# EAGLE library part ROOT1 (library thinkmaketest)
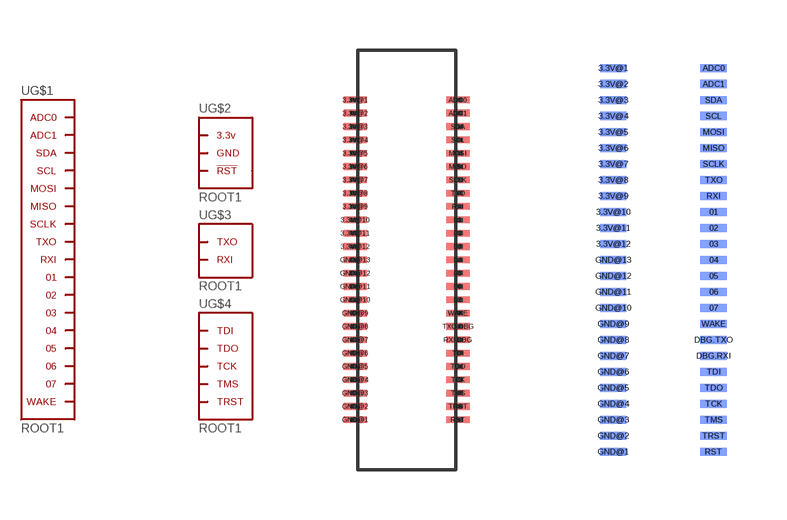
[diagram p0: symbol with the pads of ROOT1.TOP; footprints ROOT1.TOP, ROOT1.BOTTOM]

Designator prefix -; gates G$1=ROOT1.HEADER.ALL G$2=ROOT1.HEADER.PWR G$3=ROOT1.HEADER.DBG.UART G$4=ROOT1.HEADER.DBG.JTAG

## ROOT1.TOP.JTAG  [ROOT1.TOP]
01  G$1:01
02  G$1:02
03  G$1:03
3.3V@1  G$2:3.3V
3.3V@2  G$2:3.3V
3.3V@3  G$2:3.3V
3.3V@4  G$2:3.3V
3.3V@5  G$2:3.3V
3.3V@6  G$2:3.3V
3.3V@7  G$2:3.3V
3.3V@8  G$2:3.3V
3.3V@9  G$2:3.3V
3.3V@10  G$2:3.3V
3.3V@11  G$2:3.3V
3.3V@12  G$2:3.3V
04  G$1:04
05  G$1:05
06  G$1:06
07  G$1:07
ADC0  G$1:ADC0
ADC1  G$1:ADC1
GND@1  G$2:GND
GND@2  G$2:GND
GND@3  G$2:GND
GND@4  G$2:GND
GND@5  G$2:GND
GND@6  G$2:GND
GND@7  G$2:GND
GND@8  G$2:GND
GND@9  G$2:GND
GND@10  G$2:GND
GND@11  G$2:GND
GND@12  G$2:GND
GND@13  G$2:GND
MISO  G$1:MISO
MOSI  G$1:MOSI
RST  G$2:!RST
RXI  G$1:RXI
RXI.DBG  G$3:RXI
SCL  G$1:SCL
SCLK  G$1:SCLK
SDA  G$1:SDA
TCK  G$4:TCK
TDI  G$4:TDI
TDO  G$4:TDO
TMS  G$4:TMS
TRST  G$4:TRST
TXO  G$1:TXO
TXO.DBG  G$3:TXO
WAKE  G$1:WAKE

## ROOT1.BOTTOM.JTAG  [ROOT1.BOTTOM]
01  G$1:01
02  G$1:02
03  G$1:03
3.3V@1  G$2:3.3V
3.3V@2  G$2:3.3V
3.3V@3  G$2:3.3V
3.3V@4  G$2:3.3V
3.3V@5  G$2:3.3V
3.3V@6  G$2:3.3V
3.3V@7  G$2:3.3V
3.3V@8  G$2:3.3V
3.3V@9  G$2:3.3V
3.3V@10  G$2:3.3V
3.3V@11  G$2:3.3V
3.3V@12  G$2:3.3V
04  G$1:04
05  G$1:05
06  G$1:06
07  G$1:07
ADC0  G$1:ADC0
ADC1  G$1:ADC1
DBG.RXI  G$3:RXI
DBG.TXO  G$3:TXO
GND@1  G$2:GND
GND@2  G$2:GND
GND@3  G$2:GND
GND@4  G$2:GND
GND@5  G$2:GND
GND@6  G$2:GND
GND@7  G$2:GND
GND@8  G$2:GND
GND@9  G$2:GND
GND@10  G$2:GND
GND@11  G$2:GND
GND@12  G$2:GND
GND@13  G$2:GND
MISO  G$1:MISO
MOSI  G$1:MOSI
RST  G$2:!RST
RXI  G$1:RXI
SCL  G$1:SCL
SCLK  G$1:SCLK
SDA  G$1:SDA
TCK  G$4:TCK
TDI  G$4:TDI
TDO  G$4:TDO
TMS  G$4:TMS
TRST  G$4:TRST
TXO  G$1:TXO
WAKE  G$1:WAKE

## ROOT1.BOTH  [ROOT1.BOTH]
01  G$1:01
01@1  G$1:01
01@VIA  G$1:01
02  G$1:02
02@1  G$1:02
02@VIA  G$1:02
03  G$1:03
3.3V@1  G$2:3.3V
3.3V@2  G$2:3.3V
3.3V@3  G$2:3.3V
3.3V@4  G$2:3.3V
3.3V@5  G$2:3.3V
3.3V@6  G$2:3.3V
3.3V@7  G$2:3.3V
3.3V@8  G$2:3.3V
3.3V@9  G$2:3.3V
3.3V@10  G$2:3.3V
3.3V@11  G$2:3.3V
3.3V@12  G$2:3.3V
3.3V@13  G$2:3.3V
3.3V@14  G$2:3.3V
3.3V@15  G$2:3.3V
3.3V@16  G$2:3.3V
3.3V@17  G$2:3.3V
3.3V@18  G$2:3.3V
3.3V@19  G$2:3.3V
3.3V@20  G$2:3.3V
3.3V@21  G$2:3.3V
3.3V@22  G$2:3.3V
3.3V@23  G$2:3.3V
3.3V@24  G$2:3.3V
3.3V@VIA  G$2:3.3V
03@1  G$1:03
03@VIA  G$1:03
04  G$1:04
04@1  G$1:04
04@VIA  G$1:04
05  G$1:05
05@1  G$1:05
05@VIA  G$1:05
06  G$1:06
06@1  G$1:06
06@VIA  G$1:06
07  G$1:07
07@1  G$1:07
07@VIA  G$1:07
ADC0  G$1:ADC0
ADC0@1  G$1:ADC0
ADC0@VIA  G$1:ADC0
ADC1  G$1:ADC1
ADC1@1  G$1:ADC1
ADC1@VIA  G$1:ADC1
GND@1  G$2:GND
GND@2  G$2:GND
GND@3  G$2:GND
GND@4  G$2:GND
GND@5  G$2:GND
GND@6  G$2:GND
GND@7  G$2:GND
GND@8  G$2:GND
GND@9  G$2:GND
GND@10  G$2:GND
GND@11  G$2:GND
GND@12  G$2:GND
GND@13  G$2:GND
GND@14  G$2:GND
GND@15  G$2:GND
GND@16  G$2:GND
GND@17  G$2:GND
GND@18  G$2:GND
GND@19  G$2:GND
GND@20  G$2:GND
GND@21  G$2:GND
GND@22  G$2:GND
GND@23  G$2:GND
GND@24  G$2:GND
GND@25  G$2:GND
GND@26  G$2:GND
GND@VIA  G$2:GND
MISO  G$1:MISO
MISO@1  G$1:MISO
MISO@VIA  G$1:MISO
MOSI  G$1:MOSI
MOSI@1  G$1:MOSI
MOSI@VIA  G$1:MOSI
RST  G$2:!RST
RST@1  G$2:!RST
RST@VIA  G$2:!RST
RXI  G$1:RXI
RXI.DBG  G$3:RXI
RXI.DBG@1  G$3:RXI
RXI.DBG@VIA  G$3:RXI
RXI@1  G$1:RXI
RXI@VIA  G$1:RXI
SCL  G$1:SCL
SCL@1  G$1:SCL
SCL@VIA  G$1:SCL
SCLK  G$1:SCLK
SCLK@1  G$1:SCLK
SCLK@VIA  G$1:SCLK
SDA  G$1:SDA
SDA@1  G$1:SDA
SDA@VIA  G$1:SDA
TCK  G$4:TCK
TCK@1  G$4:TCK
TCK@VIA  G$4:TCK
TDI  G$4:TDI
TDI@1  G$4:TDI
TDI@VIA  G$4:TDI
TDO  G$4:TDO
TDO@1  G$4:TDO
TDO@VIA  G$4:TDO
TMS  G$4:TMS
TMS@1  G$4:TMS
TMS@VIA  G$4:TMS
TRST  G$4:TRST
TRST@1  G$4:TRST
TRST@VIA  G$4:TRST
TXO  G$1:TXO
TXO.DBG  G$3:TXO
TXO.DBG@1  G$3:TXO
TXO.DBG@VIA  G$3:TXO
TXO@1  G$1:TXO
TXO@VIA  G$1:TXO
WAKE  G$1:WAKE
WAKE@1  G$1:WAKE
WAKE@VIA  G$1:WAKE

## Footprint ROOT1.TOP (pad centres in mm)
smd 0.7 x 0.2: 01 4.08,13.9; 02 4.08,13.5; 03 4.08,13.1; 3.3V@1 1,17.5; 3.3V@2 1,17.1; 3.3V@3 1,16.7; 3.3V@4 1,16.3; 3.3V@5 1,15.9; 3.3V@6 1,15.5; 3.3V@7 1,15.1; 3.3V@8 1,14.7; 3.3V@9 1,14.3; 3.3V@10 1,13.9; 3.3V@11 1,13.5; 3.3V@12 1,13.1; 04 4.08,12.7; 05 4.08,12.3; 06 4.08,11.9; 07 4.08,11.5; ADC0 4.08,17.5; ADC1 4.08,17.1; GND@1 1,7.9; GND@2 1,8.3; GND@3 1,8.7; GND@4 1,9.1; GND@5 1,9.5; GND@6 1,9.9; GND@7 1,10.3; GND@8 1,10.7; GND@9 1,11.1; GND@10 1,11.5; GND@11 1,11.9; GND@12 1,12.3; GND@13 1,12.7; MISO 4.08,15.5; MOSI 4.08,15.9; RST 4.08,7.9; RXI 4.08,14.3; RXI.DBG 4.08,10.3; SCL 4.08,16.3; SCLK 4.08,15.1; SDA 4.08,16.7; TCK 4.08,9.1; TDI 4.08,9.9; TDO 4.08,9.5; TMS 4.08,8.7; TRST 4.08,8.3; TXO 4.08,14.7; TXO.DBG 4.08,10.7; WAKE 4.08,11.1

## Footprint ROOT1.BOTTOM (pad centres in mm)
smd 0.66 x 0.2 bottom: 01 3.795,13.9; 02 3.795,13.5; 03 3.795,13.1; 3.3V@1 1.285,17.5; 3.3V@2 1.285,17.1; 3.3V@3 1.285,16.7; 3.3V@4 1.285,16.3; 3.3V@5 1.285,15.9; 3.3V@6 1.285,15.5; 3.3V@7 1.285,15.1; 3.3V@8 1.285,14.7; 3.3V@9 1.285,14.3; 3.3V@10 1.285,13.9; 3.3V@11 1.285,13.5; 3.3V@12 1.285,13.1; 04 3.795,12.7; 05 3.795,12.3; 06 3.795,11.9; 07 3.795,11.5; ADC0 3.795,17.5; ADC1 3.795,17.1; DBG.RXI 3.795,10.3; DBG.TXO 3.795,10.7; GND@1 1.285,7.9; GND@2 1.285,8.3; GND@3 1.285,8.7; GND@4 1.285,9.1; GND@5 1.285,9.5; GND@6 1.285,9.9; GND@7 1.285,10.3; GND@8 1.285,10.7; GND@9 1.285,11.1; GND@10 1.285,11.5; GND@11 1.285,11.9; GND@12 1.285,12.3; GND@13 1.285,12.7; MISO 3.795,15.5; MOSI 3.795,15.9; RST 3.795,7.9; RXI 3.795,14.3; SCL 3.795,16.3; SCLK 3.795,15.1; SDA 3.795,16.7; TCK 3.795,9.1; TDI 3.795,9.9; TDO 3.795,9.5; TMS 3.795,8.7; TRST 3.795,8.3; TXO 3.795,14.7; WAKE 3.795,11.1

## Footprint ROOT1.BOTH (pad centres in mm)
smd 0.66 x 0.2 bottom: 01 3.795,13.9; 02 3.795,13.5; 03 3.795,13.1; 3.3V@1 1.285,17.5; 3.3V@2 1.285,17.1; 3.3V@3 1.285,16.7; 3.3V@4 1.285,16.3; 3.3V@5 1.285,15.9; 3.3V@6 1.285,15.5; 3.3V@7 1.285,15.1; 3.3V@8 1.285,14.7; 3.3V@9 1.285,14.3; 3.3V@10 1.285,13.9; 3.3V@11 1.285,13.5; 3.3V@12 1.285,13.1; 04 3.795,12.7; 05 3.795,12.3; 06 3.795,11.9; 07 3.795,11.5; ADC0 3.795,17.5; ADC1 3.795,17.1; GND@1 1.285,7.9; GND@2 1.285,8.3; GND@3 1.285,8.7; GND@4 1.285,9.1; GND@5 1.285,9.5; GND@6 1.285,9.9; GND@7 1.285,10.3; GND@8 1.285,10.7; GND@9 1.285,11.1; GND@10 1.285,11.5; GND@11 1.285,11.9; GND@12 1.285,12.3; GND@13 1.285,12.7; MISO 3.795,15.5; MOSI 3.795,15.9; RST 3.795,7.9; RXI 3.795,14.3; RXI.DBG 3.795,10.3; SCL 3.795,16.3; SCLK 3.795,15.1; SDA 3.795,16.7; TCK 3.795,9.1; TDI 3.795,9.9; TDO 3.795,9.5; TMS 3.795,8.7; TRST 3.795,8.3; TXO 3.795,14.7; TXO.DBG 3.795,10.7; WAKE 3.795,11.1
smd 0.7 x 0.2: 01@1 4.08,13.9; 02@1 4.08,13.5; 3.3V@13 1,17.5; 3.3V@14 1,17.1; 3.3V@15 1,16.7; 3.3V@16 1,16.3; 3.3V@17 1,15.9; 3.3V@18 1,15.5; 3.3V@19 1,15.1; 3.3V@20 1,14.7; 3.3V@21 1,14.3; 3.3V@22 1,13.9; 3.3V@23 1,13.5; 3.3V@24 1,13.1; 03@1 4.08,13.1; 04@1 4.08,12.7; 05@1 4.08,12.3; 06@1 4.08,11.9; 07@1 4.08,11.5; ADC0@1 4.08,17.5; ADC1@1 4.08,17.1; GND@14 1,7.9; GND@15 1,8.3; GND@16 1,8.7; GND@17 1,9.1; GND@18 1,9.5; GND@19 1,9.9; GND@20 1,10.3; GND@21 1,10.7; GND@22 1,11.1; GND@23 1,11.5; GND@24 1,11.9; GND@25 1,12.3; GND@26 1,12.7; MISO@1 4.08,15.5; MOSI@1 4.08,15.9; RST@1 4.08,7.9; RXI.DBG@1 4.08,10.3; RXI@1 4.08,14.3; SCL@1 4.08,16.3; SCLK@1 4.08,15.1; SDA@1 4.08,16.7; TCK@1 4.08,9.1; TDI@1 4.08,9.9; TDO@1 4.08,9.5; TMS@1 4.08,8.7; TRST@1 4.08,8.3; TXO.DBG@1 4.08,10.7; TXO@1 4.08,14.7; WAKE@1 4.08,11.1
drill 0.33 pad 0.686: 01@VIA 2.94,13.9; 02@VIA 6.985,13.97; 3.3V@VIA 1.14,18.1; 03@VIA 2.14,13.3; 04@VIA 2.94,12.7; 05@VIA 2.14,12.1; 06@VIA 6.985,11.43; 07@VIA 2.94,11.5; ADC0@VIA 3.94,18.1; ADC1@VIA 2.54,18.1; GND@VIA 1.14,7.3; MISO@VIA 2.14,15.7; MOSI@VIA 5.715,16.51; RST@VIA 3.94,7.3; RXI.DBG@VIA 2.94,10.3; RXI@VIA 2.14,14.5; SCL@VIA 2.94,16.3; SCLK@VIA 2.94,15.1; SDA@VIA 2.14,16.9; TCK@VIA 2.94,9.1; TDI@VIA 2.14,9.7; TDO@VIA 5.715,8.89; TMS@VIA 2.14,8.5; TRST@VIA 2.54,7.3; TXO.DBG@VIA 6.35,10.16; TXO@VIA 6.35,15.24; WAKE@VIA 2.14,10.9